# Altium schematic symbol library Transciever.SchLib: 1 symbol
Pins are listed as number, name and electrical type; pins without a type are passive.

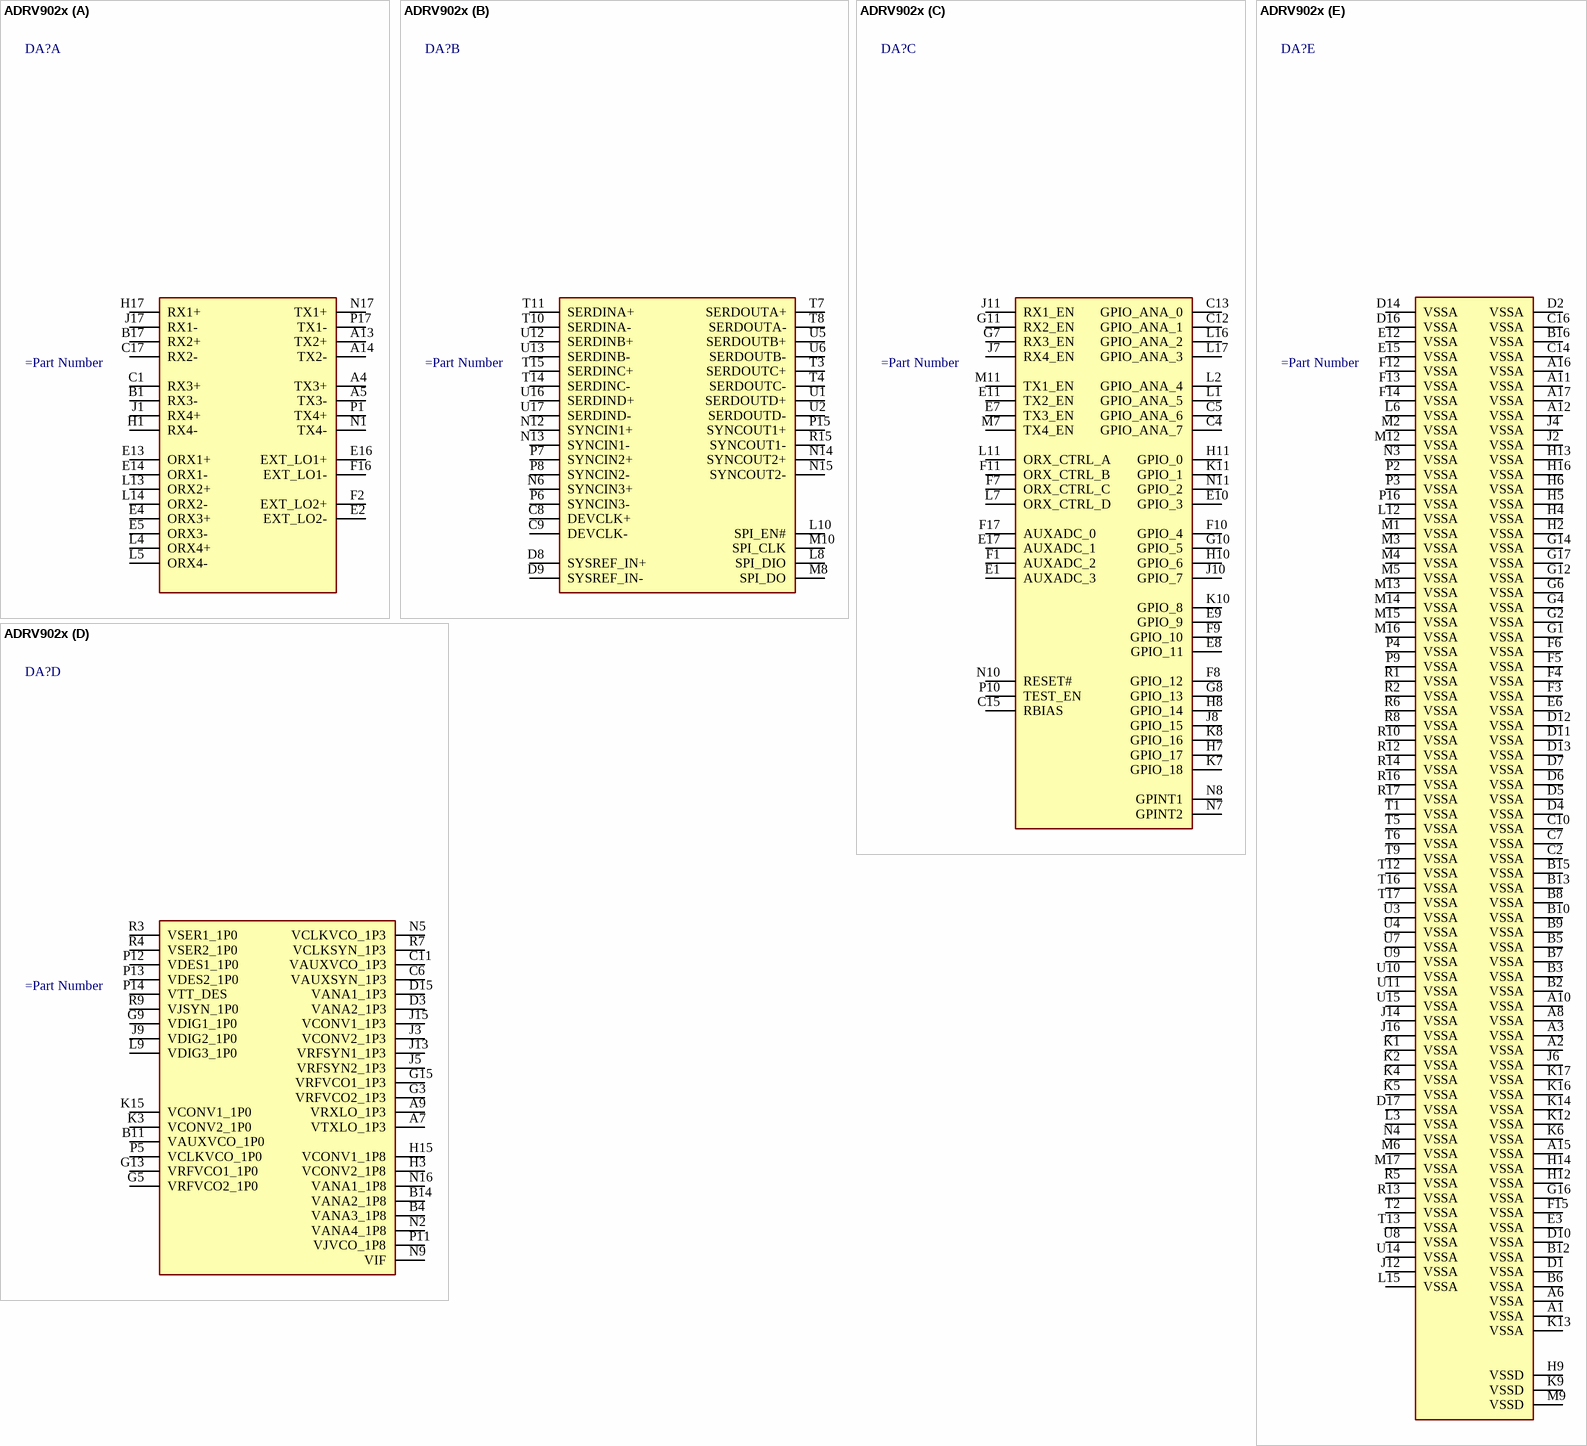
[diagram p0: symbol ADRV902x]

## ADRV902x
designator DA?
part A pins: A4 TX3+, A5 TX3-, A13 TX2+, A14 TX2-, B1 RX3-, B17 RX2+, C1 RX3+, C17 RX2-, E2 EXT_LO2-, E4 ORX3+, E5 ORX3-, E13 ORX1+, E14 ORX1-, E16 EXT_LO1+, F2 EXT_LO2+, F16 EXT_LO1-, H1 RX4-, H17 RX1+, J1 RX4+, J17 RX1-, L4 ORX4+, L5 ORX4-, L13 ORX2+, L14 ORX2-, N1 TX4-, N17 TX1+, P1 TX4+, P17 TX1-
part B pins: C8 DEVCLK+, C9 DEVCLK-, D8 SYSREF_IN+, D9 SYSREF_IN-, L8 SPI_DIO, L10 SPI_EN#, M8 SPI_DO, M10 SPI_CLK, N6 SYNCIN3+, N12 SYNCIN1+, N13 SYNCIN1-, N14 SYNCOUT2+, N15 SYNCOUT2-, P6 SYNCIN3-, P7 SYNCIN2+, P8 SYNCIN2-, P15 SYNCOUT1+, R15 SYNCOUT1-, T3 SERDOUTC+, T4 SERDOUTC-, T7 SERDOUTA+, T8 SERDOUTA-, T10 SERDINA-, T11 SERDINA+, T14 SERDINC-, T15 SERDINC+, U1 SERDOUTD+, U2 SERDOUTD-, U5 SERDOUTB+, U6 SERDOUTB-, U12 SERDINB+, U13 SERDINB-, U16 SERDIND+, U17 SERDIND-
part C pins: C4 GPIO_ANA_7, C5 GPIO_ANA_6, C12 GPIO_ANA_1, C13 GPIO_ANA_0, C15 RBIAS, E1 AUXADC_3, E7 TX3_EN, E8 GPIO_11, E9 GPIO_9, E10 GPIO_3, E11 TX2_EN, E17 AUXADC_1, F1 AUXADC_2, F7 ORX_CTRL_C, F8 GPIO_12, F9 GPIO_10, F10 GPIO_4, F11 ORX_CTRL_B, F17 AUXADC_0, G7 RX3_EN, G8 GPIO_13, G10 GPIO_5, G11 RX2_EN, H7 GPIO_17, H8 GPIO_14, H10 GPIO_6, H11 GPIO_0, J7 RX4_EN, J8 GPIO_15, J10 GPIO_7, J11 RX1_EN, K7 GPIO_18, K8 GPIO_16, K10 GPIO_8, K11 GPIO_1, L1 GPIO_ANA_5, L2 GPIO_ANA_4, L7 ORX_CTRL_D, L11 ORX_CTRL_A, L16 GPIO_ANA_2, L17 GPIO_ANA_3, M7 TX4_EN, M11 TX1_EN, N7 GPINT2, N8 GPINT1, N10 RESET#, N11 GPIO_2, P10 TEST_EN
part D pins: A7 VTXLO_1P3, A9 VRXLO_1P3, B4 VANA3_1P8, B11 VAUXVCO_1P0, B14 VANA2_1P8, C6 VAUXSYN_1P3, C11 VAUXVCO_1P3, D3 VANA2_1P3, D15 VANA1_1P3, G3 VRFVCO2_1P3, G5 VRFVCO2_1P0, G9 VDIG1_1P0, G13 VRFVCO1_1P0, G15 VRFVCO1_1P3, H3 VCONV2_1P8, H15 VCONV1_1P8, J3 VCONV2_1P3, J5 VRFSYN2_1P3, J9 VDIG2_1P0, J13 VRFSYN1_1P3, J15 VCONV1_1P3, K3 VCONV2_1P0, K15 VCONV1_1P0, L9 VDIG3_1P0, N2 VANA4_1P8, N5 VCLKVCO_1P3, N9 VIF, N16 VANA1_1P8, P5 VCLKVCO_1P0, P11 VJVCO_1P8, P12 VDES1_1P0, P13 VDES2_1P0, P14 VTT_DES, R3 VSER1_1P0, R4 VSER2_1P0, R7 VCLKSYN_1P3, R9 VJSYN_1P0
part E pins: A1 VSSA, A2 VSSA, A3 VSSA, A6 VSSA, A8 VSSA, A10 VSSA, A11 VSSA, A12 VSSA, A15 VSSA, A16 VSSA, A17 VSSA, B2 VSSA, B3 VSSA, B5 VSSA, B6 VSSA, B7 VSSA, B8 VSSA, B9 VSSA, B10 VSSA, B12 VSSA, B13 VSSA, B15 VSSA, B16 VSSA, C2 VSSA, C7 VSSA, C10 VSSA, C14 VSSA, C16 VSSA, D1 VSSA, D2 VSSA, D4 VSSA, D5 VSSA, D6 VSSA, D7 VSSA, D10 VSSA, D11 VSSA, D12 VSSA, D13 VSSA, D14 VSSA, D16 VSSA, D17 VSSA, E3 VSSA, E6 VSSA, E12 VSSA, E15 VSSA, F3 VSSA, F4 VSSA, F5 VSSA, F6 VSSA, F12 VSSA, F13 VSSA, F14 VSSA, F15 VSSA, G1 VSSA, G2 VSSA, G4 VSSA, G6 VSSA, G12 VSSA, G14 VSSA, G16 VSSA, G17 VSSA, H2 VSSA, H4 VSSA, H5 VSSA, H6 VSSA, H9 VSSD, H12 VSSA, H13 VSSA, H14 VSSA, H16 VSSA, J2 VSSA, J4 VSSA, J6 VSSA, J12 VSSA, J14 VSSA, J16 VSSA, K1 VSSA, K2 VSSA, K4 VSSA, K5 VSSA, K6 VSSA, K9 VSSD, K12 VSSA, K13 VSSA, K14 VSSA, K16 VSSA, K17 VSSA, L3 VSSA, L6 VSSA, L12 VSSA, L15 VSSA, M1 VSSA, M2 VSSA, M3 VSSA, M4 VSSA, M5 VSSA, M6 VSSA, M9 VSSD, M12 VSSA, M13 VSSA, M14 VSSA, M15 VSSA, M16 VSSA, M17 VSSA, N3 VSSA, N4 VSSA, P2 VSSA, P3 VSSA, P4 VSSA, P9 VSSA, P16 VSSA, R1 VSSA, R2 VSSA, R5 VSSA, R6 VSSA, R8 VSSA, R10 VSSA, R12 VSSA, R13 VSSA, R14 VSSA, R16 VSSA, R17 VSSA, T1 VSSA, T2 VSSA, T5 VSSA, T6 VSSA, T9 VSSA, T12 VSSA, T13 VSSA, T16 VSSA, T17 VSSA, U3 VSSA, U4 VSSA, U7 VSSA, U8 VSSA, U9 VSSA, U10 VSSA, U11 VSSA, U14 VSSA, U15 VSSA